# EAGLE library part SST26VF032B (library Mainboard)
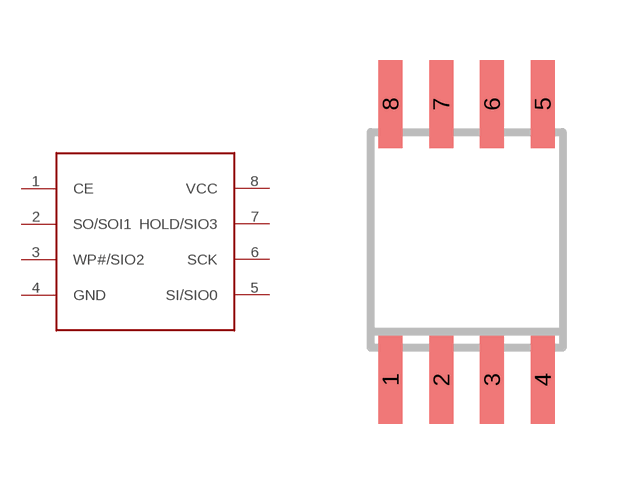
[diagram p13: symbol with the pads of SOIJ8; footprint SOIJ8]

Designator prefix -

## SST26VF032B  [SOIJ8]
1  CE
2  SO/SOI1
3  WP#/SIO2
4  GND  pwr
5  SI/SIO0
6  SCK
7  HOLD/SIO3
8  VCC  pwr

## Footprint SOIJ8 (pad centres in mm)
Small Outline IC
smd 0.6 x 2.2: 1 -1.905,-4.3; 2 -0.635,-4.3; 3 0.635,-4.3; 4 1.905,-4.3; 5 1.905,2.6; 6 0.635,2.6; 7 -0.635,2.6; 8 -1.905,2.6